# Altium schematic symbol library 317990687.SchLib: 1 symbol
Pins are listed as number, name and electrical type; pins without a type are passive.

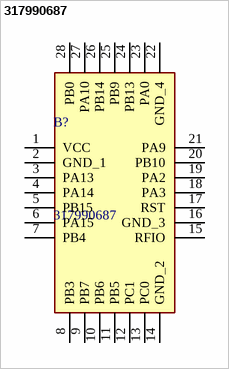
[diagram p0: symbol 317990687]

## 317990687
designator B?
Sub-GHz Modules LoRa-E5 Wireless Module LoRa-E5 has a 28-pin SMD package; Manufacturer_Name: Seeed Studio; Geometry.Height: 2.5mm; Mouser Part Number: 713-317990687; Mouser Price/Stock: https://www.mouser.co.uk/ProductDetail/Seeed-Studio/317990687?qs=hd1VzrDQEGhZOj13wvzSLA%3D%3D; Manufacturer_Part_Number: 317990687; Datasheet Link: https://files.seeedstudio.com/products/317990687/res/LoRa-E5%20module%20datasheet_V1.0.pdf
footprint 317990687
pins: 1 VCC, 2 GND_1, 3 PA13, 4 PA14, 5 PB15, 6 PA15, 7 PB4, 8 PB3, 9 PB7, 10 PB6, 11 PB5, 12 PC1, 13 PC0, 14 GND_2, 15 RFIO, 16 GND_3, 17 RST, 18 PA3, 19 PA2, 20 PB10, 21 PA9, 22 GND_4, 23 PA0, 24 PB13, 25 PB9, 26 PB14, 27 PA10, 28 PB0